# Altium schematic symbol library LED-DIODE.SchLib: 30 symbols
Pins are listed as number, name and electrical type; pins without a type are passive.

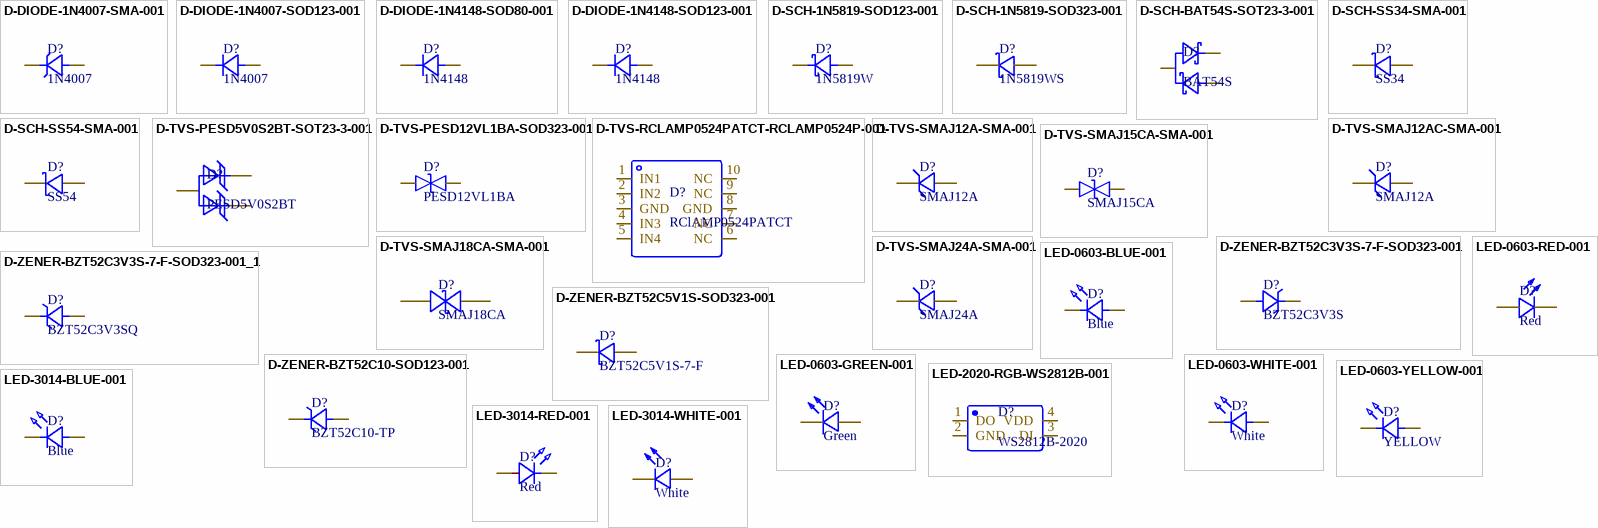
[diagram p0: symbols D-DIODE-1N4007-SMA-001 to LED-3014-WHITE-001]

## D-DIODE-1N4007-SMA-001
designator D?, comment 1N4007
DIODE STANDARD 1kV 1A DO-214AC(SMA); Part_Name: Diode SMD SMA 1N4007; Manufacturer: MSKSEMI; Internal_PN: D-DIODE-1N4007-SMA-001; Value: 1N4007; Package: DO-214AC(SMA); MPN: 1N4007; Supplier: LCSC; Supplier_PN: C7528875; LCSC_Part: C7528875; Note: https://www.lcsc.com/product-detail/C7528875.html?s_z=n_q_x_1n4007&spm=wm.ssy.em.0.tz&lcsc_vid=FFlaVlZURFlbX1EAE1lbUlZfQwdeBlBRQ1VZBFdQQwUxVlNeQ1RdUlRWQFReUzsOAxUeFF5JWBYZEEoKFBINSQcJGk4NBhADEA4cHktQRVVADxALGw%3D%3D
footprint D-DIODE-1N4007-SMA-001 (DIODE STANDARD 1kV 1A DO-214AC(SMA))
pins: 1 C, 2 A

## D-DIODE-1N4007-SOD123-001
designator D?, comment 1N4007
DIODE STANDARD 1kV 1A SOD-123; Manufacturer: FUXINSEMI; MPN: 1N4007W; Internal_PN: D-DIODE-1N4007-SOD123-001; Part_Name: D-DIODE-1N4007-SOD123-001; Value: 1N4007; Package: SOD-123; Supplier: LCSC; Supplier_PN: C3018540; LCSC_Part: C3018540; Note: https://www.lcsc.com/product-detail/C3018540.html?s_z=n_q_t_1n4007&spm=wm.fly.bg.0.xh___wm.ssy.tc.0.tz&lcsc_vid=FFlaVlZURFlbX1EAE1lbUlZfQwdeBlBRQ1VZBFdQQwUxVlNeQ1RdUlRWQFReUzsOAxUeFF5JWBYZEEoKFBINSQcJGk4NBhADEA4cHktQRVVADxALGw%3D%3D
footprint D-DIODE-1N4007-SOD123-001 (DIODE STANDARD 1kV 1A SOD-123)
pins: 1 K, 2 A

## D-DIODE-1N4148-SOD80-001
designator D?, comment 1N4148
DIODE GP 75V DO-213AA; Manufacturer: MICROCHIP; MPN: 1N4148UR-1; Internal_PN: D-DIODE-1N4148-SOD80-001; Part_Name: D-DIODE-1N4148-SOD80-001; Value: 1N4148; Package: DO-213AA; Supplier: LCSC; Supplier_PN: C3312663; LCSC_Part: C3312663; Note: https://www.lcsc.com/product-detail/C3312663.html?s_z=n_q_t_1n4148&spm=wm.fly.bg.0.xh___wm.ssy.tc.0.tz&lcsc_vid=FFlaVlZURFlbX1EAE1lbUlZfQwdeBlBRQ1VZBFdQQwUxVlNeQ1RdUl1fT1BeVzsOAxUeFF5JWBYZEEoKFBINSQcJGk4NBhADEA4cHktXQ1JeSQwSGg0%3D
footprint D-DIODE-1N4148-SOD80-001 (DIODE GP 75V DO-213AA)
pins: 1 C, 2 A

## D-DIODE-1N4148-SOD123-001
designator D?, comment 1N4148
DIODE GP 100V 300mA SOD-123; Manufacturer: JSMSEMI; MPN: 1N4148W; Internal_PN: D-DIODE-1N4148-SOD123-001; Part_Name: D-DIODE-1N4148-SOD123-001; Value: 1N4148; Package: SOD-123; Supplier: LCSC; Supplier_PN: C917030; LCSC_Part: C917030; Note: https://www.lcsc.com/product-detail/C917030.html?s_z=n_q_t_1n4148&spm=wm.fly.bg.1.xh___wm.ssy.tc.0.tz&lcsc_vid=FFlaVlZURFlbX1EAE1lbUlZfQwdeBlBRQ1VZBFdQQwUxVlNeQ1RdUl1fT1BeVzsOAxUeFF5JWBYZEEoKFBINSQcJGk4NBhADEA4cHktXQ1JeSQwSGg0%3D
footprint D-DIODE-1N4148-SOD123-001 (DIODE GP 100V 300mA SOD-123)
pins: 1 C, 2 A

## D-SCH-1N5819-SOD123-001
designator D?, comment 1N5819W
DIODE SCHOTTKY 40V SOD-123; Manufacturer: JSMSEMI; Internal_PN: D-SCH-1N5819-SOD123-001; Part_Name: D-SCH-1N5819-SOD123-001; Value: 1N5819W; Package: SOD-123; MPN: 1N5819W; Supplier: LCSC; Supplier_PN: C963381; LCSC_Part: C963381; Note: https://www.lcsc.com/product-detail/C963381.html?s_z=n_q_t_1n5819&spm=wm.fly.bg.1.xh___wm.ssy.tc.0.tz&lcsc_vid=FFlaVlZURFlbX1EAE1lbUlZfQwdeBlBRQ1VZBFdQQwUxVlNeQ1RdUFFfRVVZVDsOAxUeFF5JWBYZEEoKFBINSQcJGk4eFQsCAgIaSgADAwAHC0slRFJfVVJQRE8GEwkK
footprint D-SCH-1N5819-SOD123-001 (DIODE SCHOTTKY 40V SOD-123)
pins: 1 C, 2 A

## D-SCH-1N5819-SOD323-001
designator D?, comment 1N5819WS
DIODE SCHOTTKY 40V SOD-323; Manufacturer: Guangdong Hottech; Internal_PN: D-SCH-1N5819-SOD323-001; Part_Name: D-SCH-1N5819-SOD323-001; Value: 1N5819WS; Package: SOD-323; MPN: 1N5819WS; Supplier: LCSC; Supplier_PN: C191023; LCSC_Part: C191023; Note: https://www.lcsc.com/product-detail/C191023.html?s_z=n_q_t_1n5819&spm=wm.fly.bg.0.xh___wm.ssy.tc.0.tz&lcsc_vid=FFlaVlZURFlbX1EAE1lbUlZfQwdeBlBRQ1VZBFdQQwUxVlNeQ1RdUFFfRVVZVDsOAxUeFF5JWBYZEEoKFBINSQcJGk4eFQsCAgIaSgADAwAHC0slRFJfVVJQRE8GEwkK
footprint D-SCH-1N5819-SOD323-001
pins: 1 K, 2 A, 3 A

## D-SCH-BAT54S-SOT23-3-001
designator D?, comment BAT54S
DIODE ARR SCHOTTKY 30V SOT-23; Manufacturer: JSMSEMI; Internal_PN: D-SCH-BAT54S-SOT23-3-001; Part_Name: D-SCH-BAT54S-SOT23-3-001; Value: BAT54S; Package: SOT-23; MPN: BAT54S; Supplier: LCSC; Supplier_PN: C916425; LCSC_Part: C916425; Note: https://www.lcsc.com/product-detail/C916425.html?s_z=n_q_t_bat54s&spm=wm.fly.bg.0.xh___wm.ssy.tc.0.tz&lcsc_vid=FFlaVlZURFlbX1EAE1lbUlZfQwdeBlBRQ1VZBFdQQwUxVlNeQ1RdX11VQ1dcXjsOAxUeFF5JWBYZEEoKFBINSQcJGk4NBhADEA4cHktXQ1JeSQwSGg0%3D
footprint D-SCH-BAT54S-SOT23-3-001 (DIODE ARR SCHOTTKY 30V SOT-23)
pins: 1 A, 2 K, 3

## D-SCH-SS34-SMA-001
designator D?, comment SS34
DIODE SCHOTTKY 40V SMA(DO-214AC); Manufacturer: MDD(Microdiode Semiconductor); Internal_PN: D-SCH-SS34-SMA-001; Part_Name: D-SCH-SS34-SMA-001; Value: SS34; Package: SMA(DO-214AC); MPN: SS34; Supplier: LCSC; Supplier_PN: C8678; LCSC_Part: C8678; Note: https://www.lcsc.com/product-detail/C8678.html?s_z=n_q_x_ss34&spm=wm.ssy.em.0.tz&lcsc_vid=FFlaVlZURFlbX1EAE1lbUlZfQwdeBlBRQ1VZBFdQQwUxVlNeQ1RdXlFVQ1JYUDsOAxUeFF5JWBYZEEoKFBINSQcJGk4NBhADEA4cHktXQ1JeSQwSGg0%3D
footprint D-SCH-SS34-SMA-001 (DIODE SCHOTTKY 40V SMA(DO-214AC))
pins: 1 K, 2 A

## D-SCH-SS54-SMA-001
designator D?, comment SS54
DIODE SCHOTTKY 40V SMA(DO-214AC); Manufacturer: MDD(Microdiode Semiconductor); Internal_PN: D-SCH-SS54-SMA-001; Part_Name: D-SCH-SS54-SMA-001; Value: SS54; Package: SMA(DO-214AC); MPN: SS54; Supplier: LCSC; Supplier_PN: C22452; LCSC_Part: C22452; Note: https://www.lcsc.com/product-detail/C22452.html?s_z=n_q_x_ss54&spm=wm.ssy.em.0.tz&lcsc_vid=FFlaVlZURFlbX1EAE1lbUlZfQwdeBlBRQ1VZBFdQQwUxVlNeQ1RdXlxQRVNeXzsOAxUeFF5JWBYZEEoKFBINSQcJGk4eFQsCAgIaSgADAwAHC0slT1dZX0oOAwwC
footprint D-SCH-SS54-SMA-001 (DIODE SCHOTTKY 40V SMA(DO-214AC))
pins: 1 A, 2 K

## D-TVS-PESD5V0S2BT-SOT23-3-001
designator D?, comment PESD5V0S2BT
ESD DIODE 5VWM 16VC SOT-23; Manufacturer: BORN; Internal_PN: D-TVS-PESD5V0S2BT-SOT23-3-001; Part_Name: D-TVS-PESD5V0S2BT-SOT23-3-001; Value: PESD5V0S2BT; Package: SOT-23; MPN: PESD5V0S2BT; Supplier: LCSC; Supplier_PN: C343998; LCSC_Part: C343998; Note: https://www.lcsc.com/product-detail/C343998.html?s_z=n_q_PESD5V0S2BT&spm=wm.fly.bg.1.xh&lcsc_vid=FFlaVlZURFlbX1EAE1lbUlZfQwdeBlBRQ1VZBFdQQwUxVlNeQ1RaVlVfR1hYUTsOAxUeFF5JWBYZEEoKFBINSQcJGk4NBhADEA4cHktRR1NADxALGw%3D%3D
footprint D-TVS-PESD5V0S2BT-SOT23-3-001 (ESD DIODE 5VWM 16VC SOT-23)
pins: 1 K, 2 K, 3 A

## D-TVS-PESD12VL1BA-SOD323-001
designator D?, comment PESD12VL1BA
ESD DIODE 12VWM 26VC SOD-323; Manufacturer: UMW; Internal_PN: D-TVS-PESD12VL1BA-SOD323-001; Part_Name: D-TVS-PESD12VL1BA-SOD323-001; Value: PESD12VL1BA; Package: SOD-323; MPN: PESD12VL1BA; Supplier: LCSC; Supplier_PN: C2687119; LCSC_Part: C2687119; Note: https://www.lcsc.com/product-detail/C2687119.html?s_z=n_q_PESD12VL1BA&spm=wm.fly.bg.1.xh&lcsc_vid=FFlaVlZURFlbX1EAE1lbUlZfQwdeBlBRQ1VZBFdQQwUxVlNeQ1RaV1dUT1leVjsOAxUeFF5JWBYZEEoKFBINSQcJGk4eFQsCAgIaSgADAwAHC0slRVNaUlZIHxUDCw%3D%3D
footprint D-TVS-PESD12VL1BA-SOD323-001 (ESD DIODE 12VWM 26VC SOD-323)
pins: 1, 2

## D-TVS-RCLAMP0524PATCT-RCLAMP0524P-001
designator D?, comment RClAMP0524PATCT
ESD DIODE 5VWM 15VC DFN-10(1x2.5); Manufacturer: SEMTECH; Internal_PN: D-TVS-RCLAMP0524PATCT-RCLAMP0524P-001; Part_Name: D-TVS-RCLAMP0524PATCT-RCLAMP0524P-001; Value: RClAMP0524PATCT; Package: DFN-10(1x2.5); MPN: RClAMP0524PATCT; Supplier: LCSC; Supplier_PN: C40960; LCSC_Part: C40960; Note: https://www.lcsc.com/product-detail/C40960.html?s_z=n_q_RCLAMP0524PATCT&spm=wm.fly.bg.0.xh&lcsc_vid=FFlaVlZURFlbX1EAE1lbUlZfQwdeBlBRQ1VZBFdQQwUxVlNeQ1dcUlNXTlNYUDsOAxUeFF5JWBYZEEoKFBINSQcJGk4%3D
footprint D-TVS-RCLAMP0524PATCT-RCLAMP0524P-001 (ESD DIODE 5VWM 15VC DFN-10(1x2.5))
pins: 1 IN1, 2 IN2, 3 GND, 4 IN3, 5 IN4, 6 NC, 7 NC, 8 GND, 9 NC, 10 NC

## D-TVS-SMAJ12A-SMA-001
designator D?, comment SMAJ12A
TVS DIODE 12VWM 19.9VC DO-214AC(SMA); Manufacturer: Littelfuse; Internal_PN: D-TVS-SMAJ12A-SMA-001; Part_Name: D-TVS-SMAJ12A-SMA-001; Value: SMAJ12A; Package: DO-214AC(SMA); MPN: SMAJ12A; Supplier: LCSC; Supplier_PN: C148213; LCSC_Part: C148213; Note: https://www.lcsc.com/product-detail/C148213.html?s_z=n_q_t_SMAJ12A&spm=wm.fly.bg.0.xh___wm.ssy.tc.0.tz&lcsc_vid=FFlaVlZURFlbX1EAE1lbUlZfQwdeBlBRQ1VZBFdQQwUxVlNeQ1dcUVBXQlVXXjsOAxUeFF5JWBYZEEoKFBINSQcJGk4eFQsCAgIaSgADAwAHC0slQ1FXUVRIHxUDCw%3D%3D
footprint D-TVS-SMAJ12A-SMA-001 (TVS DIODE 12VWM 19.9VC DO-214AC(SMA))
pins: 1 C, 2 A

## D-TVS-SMAJ12AC-SMA-001
designator D?, comment SMAJ12A
TVS DIODE 12VWM 19.9VC DO-214AC(SMA); Manufacturer: Littelfuse; Internal_PN: D-TVS-SMAJ12A-SMA-001; Part_Name: D-TVS-SMAJ12A-SMA-001; Value: SMAJ12A; Package: DO-214AC(SMA); MPN: SMAJ12A; Supplier: LCSC; Supplier_PN: C148213; LCSC_Part: C148213; Note: https://www.lcsc.com/product-detail/C148213.html?s_z=n_q_t_SMAJ12A&spm=wm.fly.bg.0.xh___wm.ssy.tc.0.tz&lcsc_vid=FFlaVlZURFlbX1EAE1lbUlZfQwdeBlBRQ1VZBFdQQwUxVlNeQ1dcUVBXQlVXXjsOAxUeFF5JWBYZEEoKFBINSQcJGk4eFQsCAgIaSgADAwAHC0slQ1FXUVRIHxUDCw%3D%3D
footprint D-TVS-SMAJ12A-SMA-001 (TVS DIODE 12VWM 19.9VC DO-214AC(SMA))
pins: 1 C, 2 A

## D-TVS-SMAJ15CA-SMA-001
designator D?, comment SMAJ15CA
TVS DIODE 15VWM 24.4VC DO-214AC(SMA); Manufacturer: Littelfuse; Internal_PN: D-TVS-SMAJ15CA-SMA-001; Part_Name: D-TVS-SMAJ15CA-SMA-001; Value: SMAJ15CA; Package: DO-214AC(SMA); MPN: SMAJ15CA; Supplier: LCSC; Supplier_PN: C223985; LCSC_Part: C223985; Note: https://www.lcsc.com/product-detail/C223985.html?s_z=n_q_t_SMAJ15CA&spm=wm.fly.bg.0.xh___wm.ssy.tc.0.tz&lcsc_vid=FFlaVlZURFlbX1EAE1lbUlZfQwdeBlBRQ1VZBFdQQwUxVlNeQ1dcUV1WTlVbUTsOAxUeFF5JWBYZEEoKFBINSQcJGk4dAgUUFAk%3D
footprint D-TVS-SMAJ15CA-SMA-001 (TVS DIODE 15VWM 24.4VC DO-214AC(SMA))
pins: 1, 2

## D-TVS-SMAJ18CA-SMA-001
designator D?, comment SMAJ18CA
TVS DIODE 18VWM 29.2VC DO-214AC(SMA); Manufacturer: R+O; Internal_PN: D-TVS-SMAJ18CA-SMA-001; Part_Name: D-TVS-SMAJ18CA-SMA-001; Value: SMAJ18CA; Package: DO-214AC(SMA); MPN: SMAJ18CA; Supplier: LCSC; Supplier_PN: C19077539; LCSC_Part: C19077539; Note: https://www.lcsc.com/product-detail/C19077539.html?s_z=n_q_SMAJ18CA&spm=wm.fly.bg.1.xh&lcsc_vid=FFlaVlZURFlbX1EAE1lbUlZfQwdeBlBRQ1VZBFdQQwUxVlNeQ1dcUFJeR1RWVDsOAxUeFF5JWBYZEEoKFBINSQcJGk4NBhADEA4cHktRR1NADxALGw%3D%3D
footprint D-TVS-SMAJ18CA-SMA-001 (TVS DIODE 18VWM 29.2VC DO-214AC(SMA))
pins: 1, 2

## D-TVS-SMAJ24A-SMA-001
designator D?, comment SMAJ24A
TVS DIODE 24VWM 38.9VC DO-214AC(SMA); Manufacturer: Littelfuse; Internal_PN: D-TVS-SMAJ24A-SMA-001; Part_Name: D-TVS-SMAJ24A-SMA-001; Value: SMAJ24A; Package: DO-214AC(SMA); MPN: SMAJ24A; Supplier: LCSC; Supplier_PN: C148222; LCSC_Part: C148222; Note: https://www.lcsc.com/product-detail/C148222.html?s_z=n_q_t_SMAJ24A&spm=wm.fly.bg.0.xh___wm.ssy.tc.0.tz&lcsc_vid=FFlaVlZURFlbX1EAE1lbUlZfQwdeBlBRQ1VZBFdQQwUxVlNeQ1dXVVBXRFlZVjsOAxUeFF5JWBYZEEoKFBINSQcJGk4%3D
footprint D-TVS-SMAJ24A-SMA-001 (TVS DIODE 24VWM 38.9VC DO-214AC(SMA))
pins: 1 C, 2 A

## D-ZENER-BZT52C3V3S-7-F-SOD323-001
designator D?, comment BZT52C3V3S
1 Independent 3.1V~3.5V 3.3V SOD-323 Single Zener Diodes RoHS; Manufacturer: Chao He; Internal_PN: D-ZENER-BZT52C3V3S-7-F-SOD323-001; Part_Name: D-ZENER-BZT52C3V3S-7-F-SOD323-001; Value: BZT52C3V3S; Package: SOD-323; MPN: BZT52C3V3S; Supplier: LCSC; Supplier_PN: C51953481; LCSC_Part: C51953481; Note: https://www.lcsc.com/product-detail/C51953481.html?s_z=n_q_BZT52C3V3S&spm=wm.fly.bg.1.xh&lcsc_vid=FFlaVlZURFlbX1EAE1lbUlZfQwdeBlBRQ1VZBFdQQwUxVlNeQ1ZWVlZfQFNcVTsOAxUeFF5JWBYZEEoKFBINSQcJGk4NBhADEA4cHktXRVVXSQwSGg0%3D
footprint SOD-323_L1.7-W1.3-LS2.6-FD (1 Independent 3.1V~3.5V 3.3V SOD-323 Single Zener Diodes RoHS)
pins: 1 A, 2 K

## D-ZENER-BZT52C3V3S-7-F-SOD323-001_1
designator D?, comment BZT52C3V3SQ
DIODE ZENER 3.3V 300mW SOD-323(SC-90); Manufacturer: YANGJIE; Internal_PN: D-ZENER-BZT52C3V3S-7-F-SOD323-001; Part_Name: D-ZENER-BZT52C3V3S-7-F-SOD323-001; Value: BZT52C3V3SQ; Package: SOD-323(SC-90); MPN: BZT52C3V3SQ; Supplier: LCSC; Supplier_PN: C20600081; LCSC_Part: C20600081; Note: https://www.lcsc.com/product-detail/C20600081.html?s_z=n_q_BZT52C3V3S&spm=wm.fly.bg.2.xh&lcsc_vid=FFlaVlZURFlbX1EAE1lbUlZfQwdeBlBRQ1VZBFdQQwUxVlNeQ1dXVFZVQFhZVDsOAxUeFF5JWBYZEEoKFBINSQcJGk4NBhADEA4cHktXQ1JfSQwSGg0%3D
footprint D-ZENER-BZT52C3V3S-7-F-SOD323-001 (DIODE ZENER 3.3V 300mW SOD-323(SC-90))
pins: 1 C, 2 A

## D-ZENER-BZT52C5V1S-SOD323-001
designator D?, comment BZT52C5V1S-7-F
DIODE ZENER 5.1V 200mW SOD-323; Manufacturer: DIODES; Internal_PN: D-ZENER-BZT52C5V1S-SOD323-001; Part_Name: D-ZENER-BZT52C5V1S-SOD323-001; Value: BZT52C5V1S-7-F; Package: SOD-323; MPN: BZT52C5V1S-7-F; Supplier: LCSC; Supplier_PN: C151348; LCSC_Part: C151348; Note: https://www.lcsc.com/product-detail/C151348.html?s_z=n_q_BZT52C5V1S&spm=wm.fly.bg.0.xh&lcsc_vid=FFlaVlZURFlbX1EAE1lbUlZfQwdeBlBRQ1VZBFdQQwUxVlNeQ1dXU1VTRFJaUDsOAxUeFF5JWBYZEEoKFBINSQcJGk4NBhADEA4cHktXQ1JfSQwSGg0%3D
footprint D-ZENER-BZT52C5V1S-SOD323-001 (DIODE ZENER 5.1V 200mW SOD-323%3D)
pins: 1 C, 2 A

## D-ZENER-BZT52C10-SOD123-001
designator D?, comment BZT52C10-TP
DIODE ZENER 10V 500mW SOD-123; Manufacturer: MCC; Internal_PN: D-ZENER-BZT52C10-SOD123-001; Part_Name: D-ZENER-BZT52C10-SOD123-001; Value: BZT52C10-TP; Package: SOD-123; MPN: BZT52C10-TP; Supplier: LCSC; Supplier_PN: C668889; LCSC_Part: C668889; Note: https://www.lcsc.com/product-detail/C668889.html?s_z=n_q_BZT52C10&spm=wm.fly.bg.0.xh&lcsc_vid=FFlaVlZURFlbX1EAE1lbUlZfQwdeBlBRQ1VZBFdQQwUxVlNeQ1dXVV1TR1FdVDsOAxUeFF5JWBYZEEoKFBINSQcJGk4dAgUUFAk%3D
footprint D-ZENER-BZT52C10-SOD123-001 (DIODE ZENER 10V 500mW SOD-123)
pins: 1 C, 2 A

## LED-0603-BLUE-001
designator D?, comment Blue
LED BLUE 0603 SMD; Manufacturer: TUOZHAN; MPN: F.0603.00026/P2-0603B1TS2-06T-001; Internal_PN: LED-0603-BLUE-001; Part_Name: LED-0603-BLUE-001; Value: Blue; Package: 0603; Supplier: LCSC; Supplier_PN: C7496819; LCSC_Part: C7496819; Note: https://www.lcsc.com/product-detail/C7496819.html?s_z=n_q_t_0603%2520led&spm=wm.fly.bg.21.xh___wm.ssy.tc.0.tz&lcsc_vid=FFlaVlZURFlbX1EAE1lbUlZfQwdeBlBRQ1VZBFdQQwUxVlNeQlBcUlNfQVBfXjsOAxUeFF5JWBYZEEoKFBINSQcJGk4NBhADEA4cHktRR1NADxALGw%3D%3D
footprint LED-0603-BLUE-001 (LED BLUE 0603 SMD)
pins: 1 K, 2 A

## LED-0603-GREEN-001
designator D?, comment Green
LED YELLOW GREEN WATER CLEAR 0603 SMD; Manufacturer: LITEON; MPN: LTST-C190KGKT; Internal_PN: LED-0603-GREEN-001; Part_Name: LED-0603-GREEN-001; Value: Green; Package: 0603; Supplier: LCSC; Supplier_PN: C125094; LCSC_Part: C125094; Note: https://www.lcsc.com/product-detail/C125094.html?s_z=n_q_t_0603%2520led&spm=wm.fly.bg.18.xh___wm.ssy.tc.0.tz&lcsc_vid=FFlaVlZURFlbX1EAE1lbUlZfQwdeBlBRQ1VZBFdQQwUxVlNeQlBcUlNfQVBfXjsOAxUeFF5JWBYZEEoKFBINSQcJGk4NBhADEA4cHktRR1NADxALGw%3D%3D
footprint LED-0603-GREEN-001 (LED YELLOW GREEN WATER CLEAR 0603 SMD)
pins: 1 -, 2 +

## LED-0603-RED-001
designator D?, comment Red
LED RED 0603 SMD; Manufacturer: YONGYUTAI; MPN: YLED0603R; Internal_PN: LED-0603-RED-001; Part_Name: LED-0603-RED-001; Value: Red; Package: 0603; Supplier: LCSC; Supplier_PN: C19171390; LCSC_Part: C19171390; Note: https://www.lcsc.com/product-detail/C19171390.html?s_z=n_q_t_0603%2520led&spm=wm.fly.bg.0.xh___wm.ssy.tc.0.tz&lcsc_vid=FFlaVlZURFlbX1EAE1lbUlZfQwdeBlBRQ1VZBFdQQwUxVlNeQlBcUlNfQVBfXjsOAxUeFF5JWBYZEEoKFBINSQcJGk4NBhADEA4cHktRR1NADxALGw%3D%3D
footprint LED-0603-RED-001 (LED RED 0603 SMD)
pins: 1 +, 2 -

## LED-0603-WHITE-001
designator D?, comment White
LED WHITE YELLOW LENS 0603 SMD; Manufacturer: YONGYUTAI; MPN: YLED0603W; Internal_PN: LED-0603-WHITE-001; Part_Name: LED-0603-WHITE-001; Value: White; Package: 0603; Supplier: LCSC; Supplier_PN: C19273150; LCSC_Part: C19273150; Note: https://www.lcsc.com/product-detail/C19273150.html?s_z=n_q_t_0603%2520led&spm=wm.fly.bg.4.xh___wm.ssy.tc.0.tz&lcsc_vid=FFlaVlZURFlbX1EAE1lbUlZfQwdeBlBRQ1VZBFdQQwUxVlNeQlBcUlNfQVBfXjsOAxUeFF5JWBYZEEoKFBINSQcJGk4NBhADEA4cHktRR1NADxALGw%3D%3D
footprint LED-0603-WHITE-001 (LED WHITE YELLOW LENS 0603 SMD)
pins: 1 K, 2 A

## LED-0603-YELLOW-001
designator D?, comment YELLOW
LED YELLOW 0603 SMD; Manufacturer: YONGYUTAI; MPN: YLED0603Y; Internal_PN: LED-0603-YELLOW-001; Part_Name: LED-0603-YELLOW-001; Value: YELLOW; Package: 0603; Supplier: LCSC; Supplier_PN: C19273152; LCSC_Part: C19273152; Note: https://www.lcsc.com/product-detail/C19273152.html?s_z=n_q_t_0603%2520led&spm=wm.fly.bg.3.xh___wm.ssy.tc.0.tz&lcsc_vid=FFlaVlZURFlbX1EAE1lbUlZfQwdeBlBRQ1VZBFdQQwUxVlNeQlBcUlNfQVBfXjsOAxUeFF5JWBYZEEoKFBINSQcJGk4NBhADEA4cHktRR1NADxALGw%3D%3D
footprint LED-0603-YELLOW-001 (LED YELLOW 0603 SMD)
pins: 1 C, 2 A

## LED-2020-RGB-WS2812B-001
designator D?, comment WS2812B-2020
Intelligent control LED integrated light source; Manufacturer: Worldsemi; Internal_PN: LED-2020-RGB-WS2812B-001; Part_Name: LED-2020-RGB-WS2812B-001; Value: WS2812B-2020; Package: SMD,2.2x2mm; MPN: WS2812B-2020; Supplier: LCSC; Supplier_PN: C965555; LCSC_Part: C965555; Note: https://www.lcsc.com/product-detail/Light-Emitting-Diodes-LED_Worldsemi-WS2812B-2020_C965555.html?utm_source=chatgpt.com
footprint LED-2020-RGB-WS2812B-001 (Intelligent control LED integrated light source)
pins: 1 DO, 2 GND, 3 DI, 4 VDD

## LED-3014-BLUE-001
designator D?, comment Blue
LED BLUE WATER CLEAR SMD; Manufacturer: XINGLIGHT; MPN: XL-C3014UBC; Internal_PN: LED-3014-BLUE-001; Part_Name: LED-3014-BLUE-001; Value: Blue; Package: SMD3014-2P; Supplier: LCSC; Supplier_PN: C2843794; LCSC_Part: C2843794; Note: https://www.lcsc.com/product-detail/C2843794.html?s_z=n_q_t_3014%2520led&spm=wm.fly.bg.9.xh___wm.ssy.tc.1.tz&lcsc_vid=FFlaVlZURFlbX1EAE1lbUlZfQwdeBlBRQ1VZBFdQQwUxVlNeQlBcUFJTT1ZZVzsOAxUeFF5JWBYZEEoKFBINSQcJGk4eFQsCAgIaSgADAwAHC0sqHgYGE0kjGggaEw0IEEwqDgsCEhJDKyEiKDYBFQgCBAQDDkkxJFNWVlYkWlNeVVQ5NFhYUlFTQk8GEwkK
footprint LED-3014-BLUE-001 (LED BLUE WATER CLEAR SMD)
pins: 1 A, 2 K

## LED-3014-RED-001
designator D?, comment Red
LED RED WATER CLEAR SMD; Manufacturer: XINGLIGHT; MPN: XL-3014SURC-02; Internal_PN: LED-3014-RED-001; Part_Name: LED-3014-RED-001; Value: Red; Package: SMD3014-2P; Supplier: LCSC; Supplier_PN: C2843787; LCSC_Part: C2843787; Note: https://www.lcsc.com/product-detail/C2843787.html?s_z=n_q_t_3014%2520led&spm=wm.fly.bg.7.xh___wm.ssy.tc.1.tz&lcsc_vid=FFlaVlZURFlbX1EAE1lbUlZfQwdeBlBRQ1VZBFdQQwUxVlNeQlBcUFJTT1ZZVzsOAxUeFF5JWBYZEEoKFBINSQcJGk4eFQsCAgIaSgADAwAHC0sqHgYGE0kjGggaEw0IEEwqDgsCEhJDKyEiKDYBFQgCBAQDDkkxJFNWVlYkWlNeVVQ5NFhYUlFTQk8GEwkK
footprint LED-3014-RED-001 (LED RED WATER CLEAR SMD)
pins: 1 A, 2 K

## LED-3014-WHITE-001
designator D?, comment White
LED WHITE FROSTED YELLOW LENS SMD; Manufacturer: HONGLITRONIC; MPN: HL-A-3014H421W-S1-08HL-HR3; Internal_PN: LED-3014-WHITE-001; Part_Name: LED-3014-WHITE-001; Value: White; Package: SMD3014-2P; Supplier: LCSC; Supplier_PN: C210342; LCSC_Part: C210342; Note: https://www.lcsc.com/product-detail/C210342.html?s_z=n_q_t_3014%2520led&spm=wm.fly.bg.1.xh___wm.ssy.tc.1.tz&lcsc_vid=FFlaVlZURFlbX1EAE1lbUlZfQwdeBlBRQ1VZBFdQQwUxVlNeQlBcUFJTT1ZZVzsOAxUeFF5JWBYZEEoKFBINSQcJGk4eFQsCAgIaSgADAwAHC0sqHgYGE0kjGggaEw0IEEwqDgsCEhJDKyEiKDYBFQgCBAQDDkkxJFNWVlYkWlNeVVQ5NFhYUlFTQk8GEwkK
footprint LED-3014-WHITE-001 (LED WHITE FROSTED YELLOW LENS SMD)
pins: 1, 2